# EAGLE library part WM8988 (library igleux-signal)
Wolfson WM8988 Datasheet <http://origin.cirrus.com/jp/pubs/proDatasheet/WM8988_v4.1.pdf> Stereo CODEC
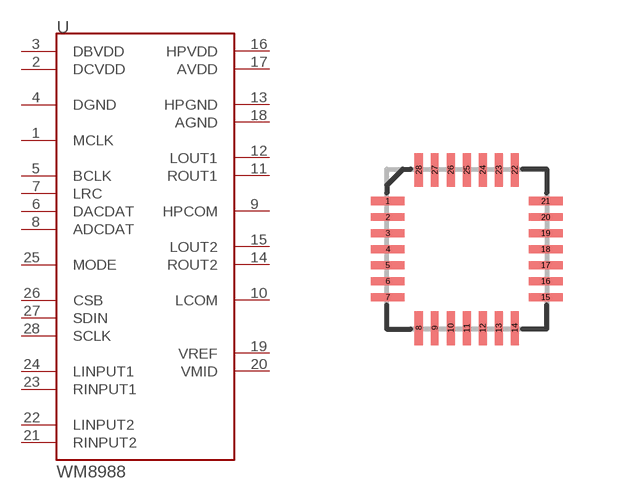
[diagram p1: symbol with the pads of QFN-28; footprint QFN-28]

Designator prefix -

## WM8988  [QFN-28]
1  MCLK
2  DCVDD
3  DBVDD
4  DGND
5  BCLK
6  DACDAT
7  LRC
8  ADCDAT
9  HPCOM
10  LCOM
11  ROUT1
12  LOUT1
13  HPGND
14  ROUT2
15  LOUT2
16  HPVDD
17  AVDD
18  AGND
19  VREF
20  VMID
21  RINPUT2
22  LINPUT2
23  RINPUT1
24  LINPUT1
25  MODE
26  CSB
27  SDIN
28  SCLK

## Footprint QFN-28 (pad centres in mm)
smd 0.85 x 0.2: 1 -1.975,1.2; 2 -1.975,0.8; 3 -1.975,0.4; 4 -1.975,0; 5 -1.975,-0.4; 6 -1.975,-0.8; 7 -1.975,-1.2; 15 1.975,-1.2; 16 1.975,-0.8; 17 1.975,-0.4; 18 1.975,0; 19 1.975,0.4; 20 1.975,0.8; 21 1.975,1.2
smd 0.2 x 0.85: 8 -1.2,-1.975; 9 -0.8,-1.975; 10 -0.4,-1.975; 11 0,-1.975; 12 0.4,-1.975; 13 0.8,-1.975; 14 1.2,-1.975; 22 1.2,1.975; 23 0.8,1.975; 24 0.4,1.975; 25 0,1.975; 26 -0.4,1.975; 27 -0.8,1.975; 28 -1.2,1.975